# EAGLE library part GAP8_RISCV (library GAP8)
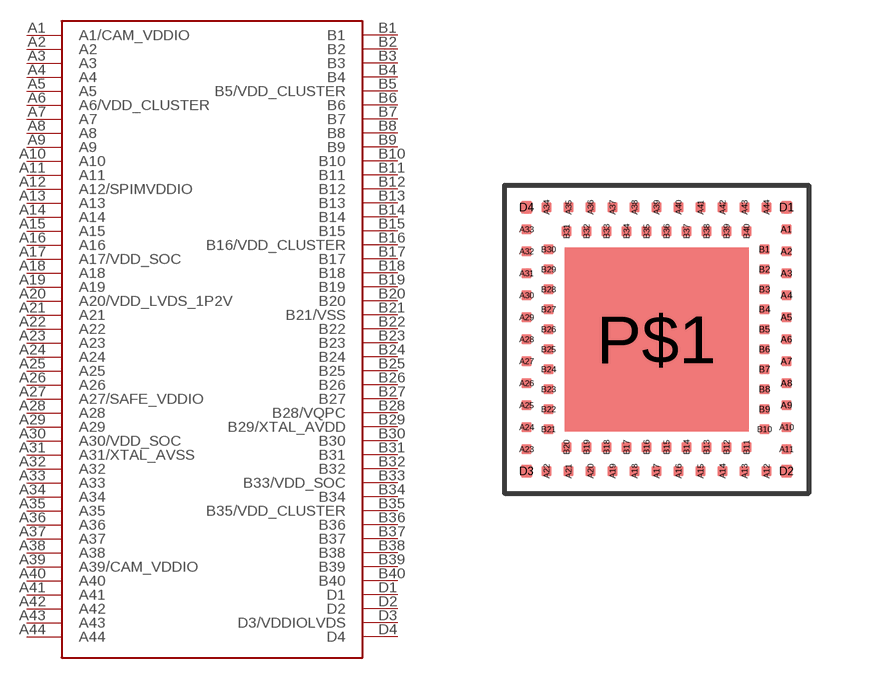
[diagram p0: symbol with the pads of GAP8_RISCV; footprint GAP8_RISCV]

Designator prefix -

## GAP8_RISCV  [GAP8_RISCV]
A1  A1/CAM_VDDIO
A2  A2
A3  A3
A4  A4
A5  A5
A6  A6/VDD_CLUSTER
A7  A7
A8  A8
A9  A9
A10  A10
A11  A11
A12  A12/SPIMVDDIO
A13  A13
A14  A14
A15  A15
A16  A16
A17  A17/VDD_SOC
A18  A18
A19  A19
A20  A20/VDD_LVDS_1P2V
A21  A21
A22  A22
A23  A23
A24  A24
A25  A25
A26  A26
A27  A27/SAFE_VDDIO
A28  A28
A29  A29
A30  A30/VDD_SOC
A31  A31/XTAL_AVSS
A32  A32
A33  A33
A34  A34
A35  A35
A36  A36
A37  A37
A38  A38
A39  A39/CAM_VDDIO
A40  A40
A41  A41
A42  A42
A43  A43
A44  A44
B1  B1
B2  B2
B3  B3
B4  B4
B5  B5/VDD_CLUSTER
B6  B6
B7  B7
B8  B8
B9  B9
B10  B10
B11  B11
B12  B12
B13  B13
B14  B14
B15  B15
B16  B16/VDD_CLUSTER
B17  B17
B18  B18
B19  B19
B20  B20
B21  B21/VSS
B22  B22
B23  B23
B24  B24
B25  B25
B26  B26
B27  B27
B28  B28/VQPC
B29  B29/XTAL_AVDD
B30  B30
B31  B31
B32  B32
B33  B33/VDD_SOC
B34  B34
B35  B35/VDD_CLUSTER
B36  B36
B37  B37
B38  B38
B39  B39
B40  B40
D1  D1
D2  D2
D3  D3/VDDIOLVDS
D4  D4

## Footprint GAP8_RISCV (pad centres in mm)
smd 0.25 x 0.25: A1 3.25,2.75; A2 3.25,2.2; A3 3.25,1.65; A4 3.25,1.1; A5 3.25,0.55; A6 3.25,0; A7 3.25,-0.55; A8 3.25,-1.1; A9 3.25,-1.65; A10 3.25,-2.2; A11 3.25,-2.75; A12 2.75,-3.3; A13 2.2,-3.3; A14 1.65,-3.3; A15 1.1,-3.3; A16 0.55,-3.3; A17 0,-3.3; A18 -0.55,-3.3; A19 -1.1,-3.3; A20 -1.65,-3.3; A21 -2.2,-3.3; A22 -2.75,-3.3; A23 -3.25,-2.75; A24 -3.25,-2.2; A25 -3.25,-1.65; A26 -3.25,-1.1; A27 -3.25,-0.55; A28 -3.25,0; A29 -3.25,0.55; A30 -3.25,1.1; A31 -3.25,1.65; A32 -3.25,2.2; A33 -3.25,2.75; A34 -2.75,3.3; A35 -2.2,3.3; A36 -1.65,3.3; A37 -1.1,3.3; A38 -0.55,3.3; A39 0,3.3; A40 0.55,3.3; A41 1.1,3.3; A42 1.65,3.3; A43 2.2,3.3; A44 2.75,3.3; B1 2.7,2.25; B2 2.7,1.75; B3 2.7,1.25; B4 2.7,0.75; B5 2.7,0.25; B6 2.7,-0.25; B7 2.7,-0.75; B8 2.7,-1.25; B9 2.7,-1.75; B10 2.7,-2.25; B11 2.25,-2.7; B12 1.75,-2.7; B13 1.25,-2.7; B14 0.75,-2.7; B15 0.25,-2.7; B16 -0.25,-2.7; B17 -0.75,-2.7; B18 -1.25,-2.7; B19 -1.75,-2.7; B20 -2.25,-2.7; B21 -2.7,-2.25; B22 -2.7,-1.75; B23 -2.7,-1.25; B24 -2.7,-0.75; B25 -2.7,-0.25; B26 -2.7,0.25; B27 -2.7,0.75; B28 -2.7,1.25; B29 -2.7,1.75; B30 -2.7,2.25; B31 -2.25,2.7; B32 -1.75,2.7; B33 -1.25,2.7; B34 -0.75,2.7; B35 -0.25,2.7; B36 0.25,2.7; B37 0.75,2.7; B38 1.25,2.7; B39 1.75,2.7; B40 2.25,2.7
smd 0.3 x 0.3: D1 3.25,3.3; D2 3.25,-3.3; D3 -3.25,-3.3; D4 -3.25,3.3
smd 4.6 x 4.6: P$1 0,0